# Altium integrated library 1uF_Cap_GCM188R71C105KA64J.IntLib: 1 symbol
Pins are listed as number, name and electrical type; pins without a type are passive.

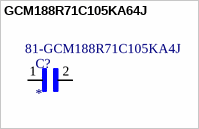
[diagram p0: symbol GCM188R71C105KA64J]

## GCM188R71C105KA64J
designator C?  Supplier Part Number 1: 81-GCM188R71C105KA4J
0603 1 uF 16 V Â±10% Tolerance X7R Automotive Multilayer Ceramic Capacitor; MF: Murata; MP: GCM188R71C105KA64J; Value: *; Price: None; Package: 1608 Murata; Check_prices: https://www.snapeda.com/parts/GCM188R71C105KA64J/Murata%20Electronics%20North%20America/view-part/1755583/?ref=eda; Availability: In Stock; SnapEDA_Link: https://www.snapeda.com/parts/GCM188R71C105KA64J/Murata%20Electronics%20North%20America/view-part/1755583/?ref=snap; Supplier 1: Mouser
footprint CAPC1608X90N
pins: 1, 2